# Altium schematic symbol library Operational Amplifiers.SchLib: 4 symbols
Pins are listed as number, name and electrical type; pins without a type are passive.

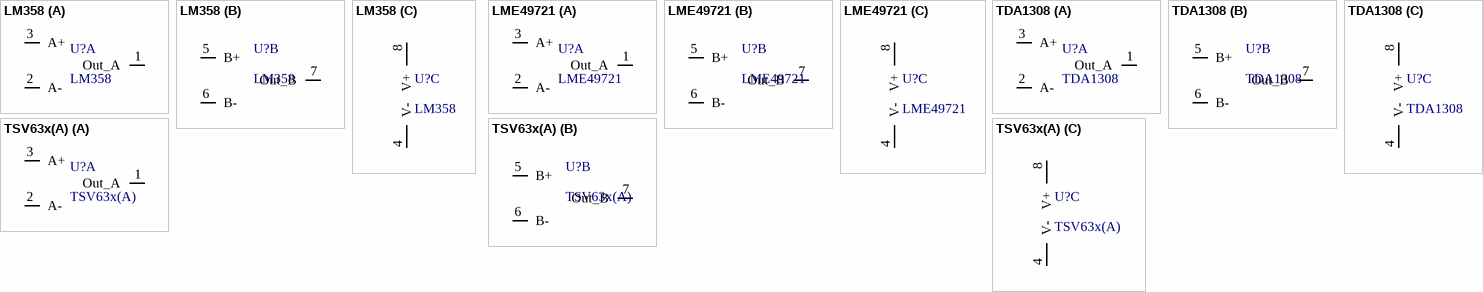
[diagram p0: symbols LM358 to TSV63x(A)]

## LM358
designator U?
LM358 Dual-Operational Amplifier
footprint DIP-8
simulation model LM358 (LM358 OPERATIONAL AMPLIFIER "MACROMODEL" SUBCIRCUIT)
part A pins: 1 Out_A, 2 A-, 3 A+
part B pins: 5 B+, 6 B-, 7 Out_B
part C pins: 4 V-, 8 V+

## LME49721
designator U?
LME49721 Dual Audio Operational Amplifier
footprint LC-SOIC-8_150mil
simulation model LME49721 ($)
part A pins: 1 Out_A, 2 A-, 3 A+
part B pins: 5 B+, 6 B-, 7 Out_B
part C pins: 4 V-, 8 V+

## TDA1308
designator U?
TDA1308 Class-AB stereo headphone driver
footprint LC-SOIC-8_150mil
part A pins: 1 Out_A, 2 A-, 3 A+
part B pins: 5 B+, 6 B-, 7 Out_B
part C pins: 4 V-, 8 V+

## TSV63x(A)
designator U?
TSV63x(A) Dual Audio Operational Amplifier
footprint LC-SOIC-8_150mil
simulation model LME49721 ($)
footprint LC-DFN-8_2x2mm
part A pins: 1 Out_A, 2 A-, 3 A+
part B pins: 5 B+, 6 B-, 7 Out_B
part C pins: 4 V-, 8 V+